# Altium integrated library LT6201IS8#PBF.IntLib: 1 symbol
Pins are listed as number, name and electrical type; pins without a type are passive.

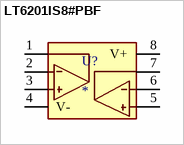
[diagram p0: symbol LT6201IS8#PBF]

## LT6201IS8#PBF
designator U?
Buffer Amplifier 2 Circuit Rail-to-Rail 8-SO; ID: LT6201IS8#PBF; ComponentLink1Description: Compra; ComponentLink1URL: https://www.digikey.com/en/products/detail/analog-devices-inc/LT6201IS8-PBF/961104
footprint SOIC127P600X175-8N
pins: 1 OUTA, 2 -INA, 3 +INA, 4 V-, 5 +INB, 6 -INB, 7 OUTB, 8 V+